# Altium schematic symbol library EL-sense_Ethernet_ICs.SchLib: 3 symbols
Pins are listed as number, name and electrical type; pins without a type are passive.

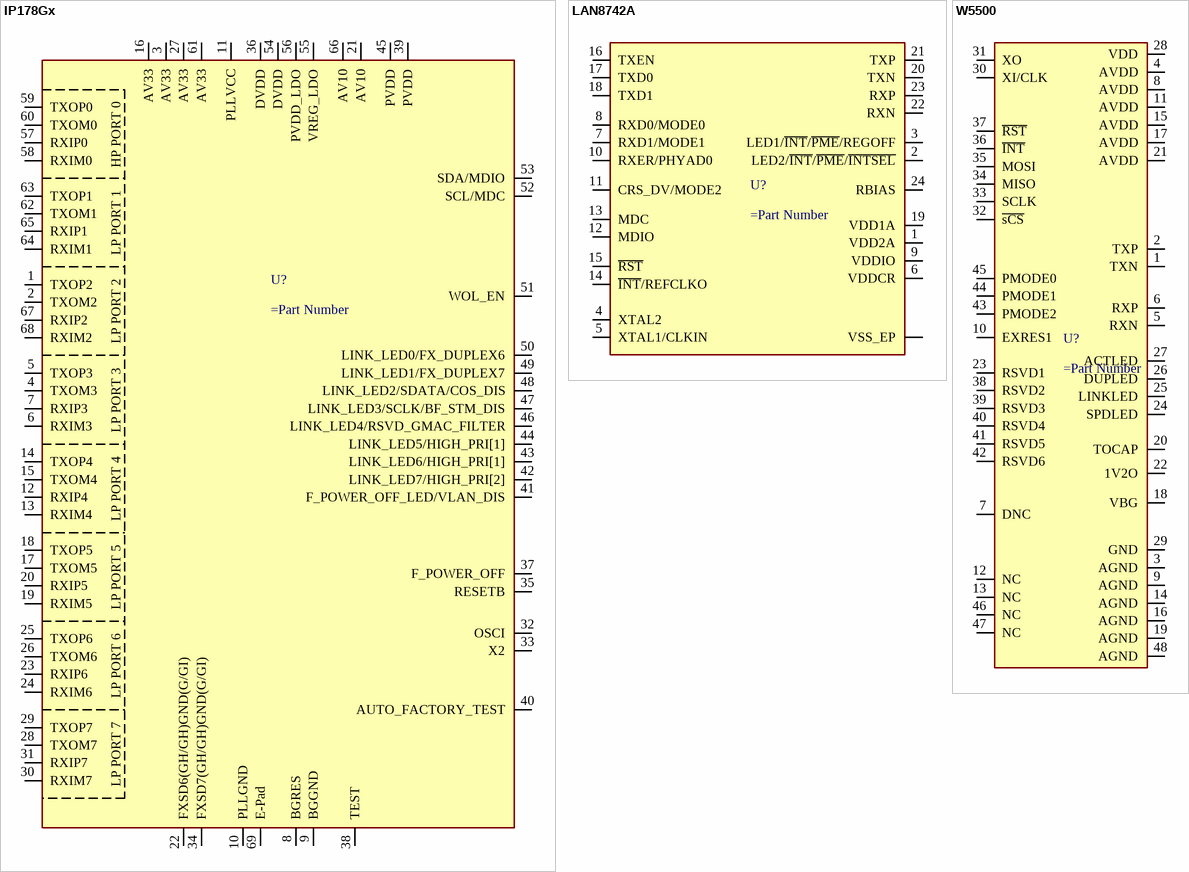
[diagram p0: symbols IP178Gx to W5500]

## IP178Gx
designator U?
pins: 1 TXOP2, 2 TXOM2, 3 AV33, 4 TXOM3, 5 TXOP3, 6 RXIM3, 7 RXIP3, 8 BGRES, 9 BGGND, 10 PLLGND, 11 PLLVCC, 12 RXIP4, 13 RXIM4, 14 TXOP4, 15 TXOM4, 16 AV33, 17 TXOM5, 18 TXOP5, 19 RXIM5, 20 RXIP5, 21 AV10, 22 FXSD6(GH/GH)GND(G/GI), 23 RXIP6, 24 RXIM6, 25 TXOP6, 26 TXOM6, 27 AV33, 28 TXOM7, 29 TXOP7, 30 RXIM7, 31 RXIP7, 32 OSCI, 33 X2, 34 FXSD7(GH/GH)GND(G/GI), 35 RESETB, 36 DVDD, 37 F_POWER_OFF, 38 TEST, 39 PVDD, 40 AUTO_FACTORY_TEST, 41 F_POWER_OFF_LED/VLAN_DIS, 42 LINK_LED7/HIGH_PRI[2], 43 LINK_LED6/HIGH_PRI[1], 44 LINK_LED5/HIGH_PRI[1], 45 PVDD, 46 LINK_LED4/RSVD_GMAC_FILTER, 47 LINK_LED3/SCLK/BF_STM_DIS, 48 LINK_LED2/SDATA/COS_DIS, 49 LINK_LED1/FX_DUPLEX7, 50 LINK_LED0/FX_DUPLEX6, 51 WOL_EN, 52 SCL/MDC, 53 SDA/MDIO, 54 DVDD, 55 VREG_LDO, 56 PVDD_LDO, 57 RXIP0, 58 RXIM0, 59 TXOP0, 60 TXOM0, 61 AV33, 62 TXOM1, 63 TXOP1, 64 RXIM1, 65 RXIP1, 66 AV10, 67 RXIP2, 68 RXIM2, 69 E-Pad
text: HP PORT 0; LP PORT 1; LP PORT 2; LP PORT 3; LP PORT 4; LP PORT 5; LP PORT 6; LP PORT 7

## LAN8742A
designator U?
pins: 1 VDD2A, 2 LED2/~{INT}/~{PME}/~{INTSEL}, 3 LED1/~{INT}/~{PME}/REGOFF, 4 XTAL2, 5 XTAL1/CLKIN, 6 VDDCR, 7 RXD1/MODE1, 8 RXD0/MODE0, 9 VDDIO, 10 RXER/PHYAD0, 11 CRS_DV/MODE2, 12 MDIO, 13 MDC, 14 ~{INT}/REFCLKO, 15 ~{RST}, 16 TXEN, 17 TXD0, 18 TXD1, 19 VDD1A, 20 TXN, 21 TXP, 22 RXN, 23 RXP, 24 RBIAS, TP VSS_EP

## W5500
designator U?
pins: 1 TXN, 2 TXP, 3 AGND, 4 AVDD, 5 RXN, 6 RXP, 7 DNC, 8 AVDD, 9 AGND, 10 EXRES1, 11 AVDD, 12 NC, 13 NC, 14 AGND, 15 AVDD, 16 AGND, 17 AVDD, 18 VBG, 19 AGND, 20 TOCAP, 21 AVDD, 22 1V2O, 23 RSVD1, 24 SPDLED, 25 LINKLED, 26 DUPLED, 27 ACTLED, 28 VDD, 29 GND, 30 XI/CLK, 31 XO, 32 ~{sCS}, 33 SCLK, 34 MISO, 35 MOSI, 36 ~{INT}, 37 ~{RST}, 38 RSVD2, 39 RSVD3, 40 RSVD4, 41 RSVD5, 42 RSVD6, 43 PMODE2, 44 PMODE1, 45 PMODE0, 46 NC, 47 NC, 48 AGND